# EAGLE library part AS-ITM-00325 (library tinycircuits)
SENSOR TEMP I2C/SMBUS 8HWSON
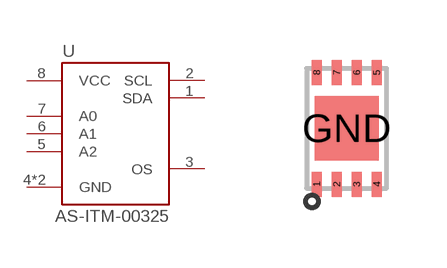
[diagram p125: symbol with the pads of HWSON-8; footprint HWSON-8]

Designator prefix U

## AS-ITM-00325 (PARTNO: AS-ITM-00325; VALUE: PCT2075)  [HWSON-8]
1  SDA
2  SCL
3  OS
4  GND
5  A2
6  A1
7  A0
8  VCC
GND  GND

## Footprint HWSON-8 (pad centres in mm)
smd 0.25 x 0.625: 1 -0.75,-1.4; 2 -0.25,-1.4; 3 0.25,-1.4; 4 0.75,-1.4; 5 0.75,1.4; 6 0.25,1.4; 7 -0.25,1.4; 8 -0.75,1.4
smd 1.6 x 1.6: GND 0,0